# Altium footprint library RDA5981.PcbLib: 33 footprints (part 3 of 3)
Each footprint in its own frame and in the unit in brackets; x right, y up, seen from the top. Pads: shape width x height; smd on the part's side, far side on the other; paste and mask are expansions set on the pad; w line width, h text height; cw(c..) or ccw(c..) is an arc to the next point about the centre after c.
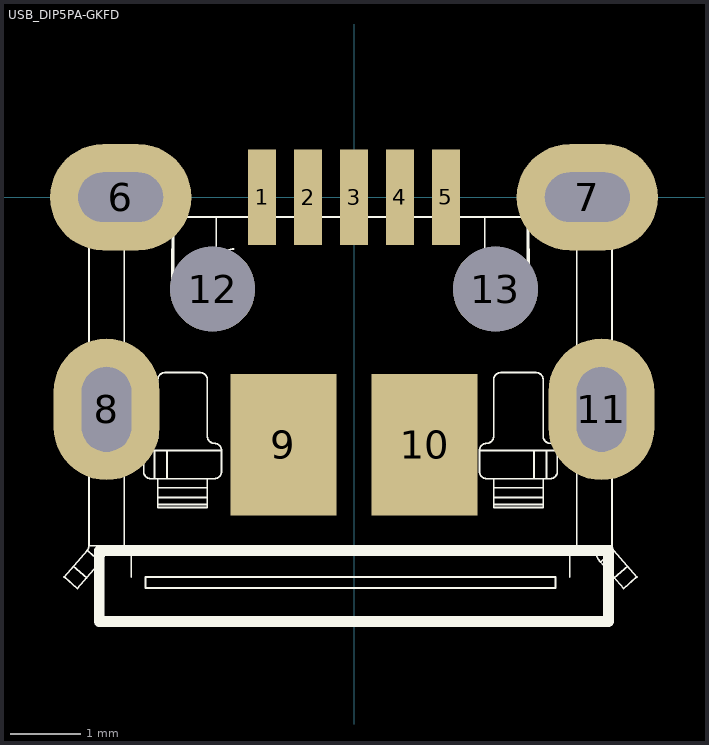
[diagram p2: the footprint, top view; thin cyan lines are the x and y axes]

## USB_DIP5PA-GKFD [mm]
pads (13):
  rect 0.4x1.35 smd: 1(-1.3,0) 2(-0.65,0) 3(0,0) 4(0.65,0) 5(1.3,0)
  oval 2x1.5 hole 0.7 slot 1.2 at 0 deg: 6(-3.3,0) 7(3.3,0)
  oval 1.5x2 hole 0.7 slot 1.2 at 90 deg: 8(-3.5,-3) 11(3.5,-3)
  rect 1.5x2 smd: 9(-1,-3.5) 10(1,-3.5)
  round 1.2 hole 1.2 unplated: 12(-2,-1.3) 13(2,-1.3)
Top Overlay:
  lines w0.025: -3.968,-5.219 -3.78,-5.383 ; -3.5,-4.93 cw(c-3.85,-4.93) -3.585,-5.16 ; -3.4,-3.23 -3.4,-2.33 ; -3.25,-4.93 -3.25,-0.28 ; -3.15,-5.371 -3.15,-4.93 ; -3.15,-4.993 3.05,-4.993 ; -2.821,-3.98 -2.821,-3.58 ; -2.775,-4.344 -2.075,-4.344 ; -2.775,-4.247 -2.075,-4.247 ; -2.775,-4.11 -2.075,-4.11 ; -2.775,-3.98 -2.775,-4.387 -2.075,-4.387 -2.075,-3.98 ; -2.67,-0.28 cw(c-2.67,-0.38) -2.57,-0.38 -2.57,-0.73 -2.575,-0.73 -2.575,-1.38 ccw(c-2.475,-1.38) -2.475,-1.48 -2.025,-1.48 ccw(c-2.025,-1.38) -1.925,-1.38 -1.925,-0.98 cw(c-1.775,-0.98) -1.895,-0.89 -1.82,-0.79 cw(c-1.699,-0.88) -1.699,-0.73 ; -2.645,-3.98 -2.645,-3.58 ; -2.56,-1.43 -1.939,-1.43 ; -2.55,-0.28 -2.55,-1.28 ccw(c-2.4,-1.28) -2.4,-1.43 ; -2.1,-1.43 ccw(c-2.1,-1.28) -1.95,-1.28 -1.95,-0.28 ; 1.72,-0.79 1.795,-0.89 cw(c1.675,-0.98) 1.825,-0.98 1.825,-1.38 ccw(c1.925,-1.38) 1.925,-1.48 2.375,-1.48 ccw(c2.375,-1.38) 2.475,-1.38 2.475,-0.73 2.47,-0.73 2.47,-0.38 cw(c2.57,-0.38) 2.57,-0.28 ; 1.84,-1.43 2.461,-1.43 ; 1.85,-0.28 1.85,-1.28 ccw(c2,-1.28) 2,-1.43 ; 1.975,-4.344 2.675,-4.344 ; 1.975,-4.247 2.675,-4.247 ; 1.975,-4.11 2.675,-4.11 ; 1.975,-3.98 1.975,-4.387 2.675,-4.387 2.675,-3.98 ; 2.3,-1.43 ccw(c2.3,-1.28) 2.45,-1.28 2.45,-0.28 ; 2.545,-3.98 2.545,-3.58 ; 2.721,-3.98 2.721,-3.58 ; 3.05,-5.371 3.05,-4.93 ; 3.15,-4.93 3.15,-0.28 ; 3.3,-3.23 3.3,-2.33 ; 3.4,-4.93 ccw(c3.75,-4.93) 3.486,-5.16 ; 3.681,-5.383 3.869,-5.219 ; -3.774,-4.996 ccw(c-3.85,-4.93) -3.75,-4.93 ; -3.774,-4.996 -3.585,-5.16 ; -3.774,-4.996 -4.1,-5.37 -3.911,-5.534 -3.585,-5.16 ; -3.75,-4.93 3.65,-4.93 ; -3.75,-4.93 -3.75,-0.28 3.65,-0.28 3.65,-4.93 ; -2.975,-3.58 cw(c-2.875,-3.58) -2.875,-3.48 ccw(c-2.875,-3.38) -2.775,-3.38 -2.775,-2.58 cw(c-2.675,-2.58) -2.675,-2.48 -2.175,-2.48 cw(c-2.175,-2.58) -2.075,-2.58 -2.075,-3.38 ccw(c-1.975,-3.38) -1.975,-3.48 cw(c-1.975,-3.58) -1.875,-3.58 ; -2.975,-3.58 -1.875,-3.58 ; -2.975,-3.58 -2.975,-3.88 ccw(c-2.875,-3.88) -2.875,-3.98 -1.975,-3.98 ccw(c-1.975,-3.88) -1.875,-3.88 -1.875,-3.58 ; 1.775,-3.58 cw(c1.875,-3.58) 1.875,-3.48 ccw(c1.875,-3.38) 1.975,-3.38 1.975,-2.58 cw(c2.075,-2.58) 2.075,-2.48 2.575,-2.48 cw(c2.575,-2.58) 2.675,-2.58 2.675,-3.38 ccw(c2.775,-3.38) 2.775,-3.48 cw(c2.775,-3.58) 2.875,-3.58 ; 1.775,-3.58 2.875,-3.58 ; 1.775,-3.58 1.775,-3.88 ccw(c1.875,-3.88) 1.875,-3.98 2.775,-3.98 ccw(c2.775,-3.88) 2.875,-3.88 2.875,-3.58 ; 3.486,-5.16 3.812,-5.534 4,-5.37 3.675,-4.996 ; 3.486,-5.16 3.675,-4.996 ; 3.65,-4.93 ccw(c3.75,-4.93) 3.675,-4.996 ; -2.95,-5.527 2.85,-5.527 2.85,-5.37 -2.95,-5.37 -2.95,-5.527
  lines w0.15: -3.605,-6 -3.605,-5 3.6,-5 3.6,-6 -3.605,-6
Top Paste:
  region: 2.828,-0.751 2.695,-0.696 2.529,-0.568 2.401,-0.402 2.321,-0.208 2.293,0 2.321,0.208 2.401,0.402 2.529,0.568 2.695,0.696 2.827,0.751 2.828,0.75 3.782,0.75 3.908,0.698 4.075,0.57 4.203,0.403 4.283,0.209 4.311,0 4.283,-0.209 4.203,-0.403 4.075,-0.57 3.908,-0.698 3.782,-0.75 2.828,-0.75
  region: -3.772,-0.751 -3.905,-0.696 -4.071,-0.568 -4.199,-0.402 -4.279,-0.208 -4.307,0 -4.279,0.208 -4.199,0.402 -4.071,0.568 -3.905,0.696 -3.773,0.751 -3.772,0.75 -2.818,0.75 -2.692,0.698 -2.525,0.57 -2.397,0.403 -2.317,0.209 -2.289,0 -2.317,-0.209 -2.397,-0.403 -2.525,-0.57 -2.692,-0.698 -2.818,-0.75 -3.772,-0.75
  region: -4.251,-2.527 -4.196,-2.396 -4.069,-2.229 -3.902,-2.101 -3.708,-2.021 -3.5,-1.994 -3.292,-2.021 -3.098,-2.101 -2.931,-2.229 -2.804,-2.396 -2.749,-2.527 -2.75,-2.528 -2.749,-3.482 -2.801,-3.607 -2.93,-3.774 -3.097,-3.903 -3.291,-3.983 -3.5,-4.011 -3.709,-3.983 -3.903,-3.903 -4.07,-3.774 -4.199,-3.607 -4.251,-3.482 -4.25,-3.482 -4.25,-2.528
  region: 2.749,-2.527 2.804,-2.396 2.931,-2.229 3.098,-2.101 3.292,-2.021 3.5,-1.994 3.708,-2.021 3.902,-2.101 4.069,-2.229 4.196,-2.396 4.251,-2.527 4.25,-2.528 4.251,-3.482 4.199,-3.607 4.07,-3.774 3.903,-3.903 3.709,-3.983 3.5,-4.011 3.291,-3.983 3.097,-3.903 2.93,-3.774 2.801,-3.607 2.749,-3.482 2.75,-3.482 2.75,-2.528